# Altium schematic symbol library Connector.SchLib: 11 symbols
Pins are listed as number, name and electrical type; pins without a type are passive.

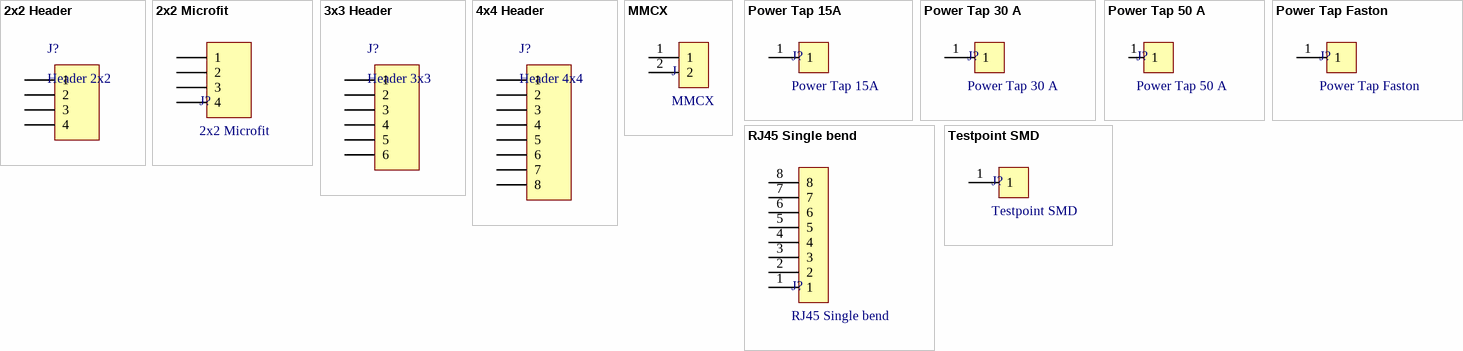
[diagram p0: symbols 2x2 Header to Testpoint SMD]

## 2x2 Header
designator J?, comment Header 2x2
Header, Two rows, Right angle; Other: Max Current per Pin 5A; Distributor: Digi-Key
footprint Header-20-Right (BERGSTIK II SR RIGHT ANGLE RET_20Pins-2Rows)
pins: 1, 2, 3, 4

## 2x2 Microfit
designator J?
Logic power connector, daisy chain; Manufacturer: Microfit
footprint MicroFit_2x2 (4 Position MicroFit 3.0 Connection (2x2))
pins: 1, 2, 3, 4

## 3x3 Header
designator J?, comment Header 3x3
Header, Three rows, Right angle; Other: Max Current per Pin 5A; Distributor: Digi-Key
footprint Header-3x3-Right (BERGSTIK II SR RIGHT ANGLE RET_20Pins-2Rows)
pins: 1, 2, 3, 4, 5, 6

## 4x4 Header
designator J?, comment Header 4x4
Header, 4 rows, Right angle; Other: Max Current per Pin 5A; Distributor: Digi-Key
pins: 1, 2, 3, 4, 5, 6, 7, 8

## MMCX
designator J
MMCX Female, straight, Molex; Distributor: Digi-key; Distributor-Reference: WM5557-ND; Manufacturer: Molex
footprint MOLEX MMCX
pins: 1, 2

## Power Tap 15A
designator J?
footprint Powertap 15A Connector (8191-SEMS)
pins: 1

## Power Tap 30 A
designator J?
footprint Powertap 30A Connector (8199K-ND)
pins: 1

## Power Tap 50 A
designator J?
pins: 1 hidden, 1 hidden, 1 hidden, 1

## Power Tap Faston
designator J?
Distributor: Digikey
footprint POWERTAP Faston (Terminal Faston Tab .250)
pins: 1

## RJ45 Single bend
designator J?
RJ45 Jack, single, 90 degree angle; Distributor: *; DistributorReference: *; ManufacturerReference: *
footprint RJ45-Single (RJ45-Connector; PCB Jack, Thru-Hole; 1-Port, 8 Positions, 8 Loaded; Shielded without Lightpipes; Right Angle)
pins: 1, 2, 3, 4, 5, 6, 7, 8

## Testpoint SMD
designator J?
Test Point, Miniature Phosphor Bronze, Silver Plating Surface Mount Mounting Type; Manufacturer: Keystone Electronics; ManufacturerReference: 5017; DistributorReference: 36-5017CT-ND; Distributor: Digikey
footprint TESTPOINT SMD (Test Point, Mini SMD, 2.67 x 1.02 mm)
pins: 1